# EAGLE library part ATMEGA48 (library avr_modified)
MICROCONTROLLER 4 Kbytes FLASH 512 Bytes SRAM 256 Bytes EEPROM USART 8-channel 10 bit ADC
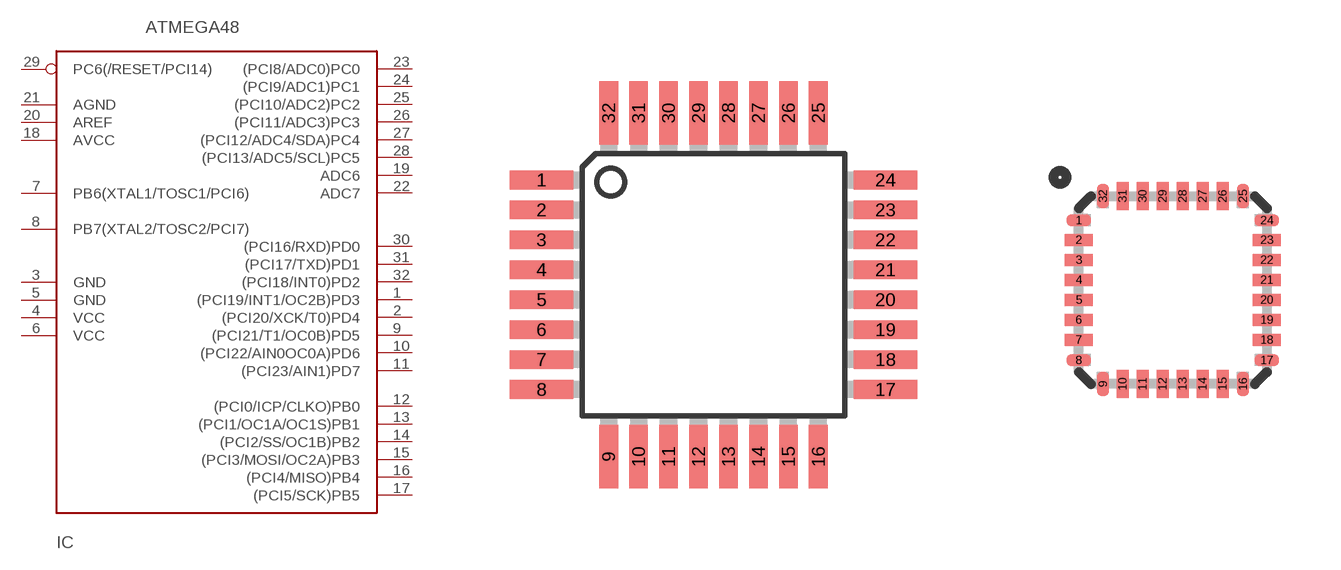
[diagram p53: symbol with the pads of TQFP32-08_LARGE_PADS; footprints TQFP32-08_LARGE_PADS, MLF32]

Designator prefix IC

## ATMEGA48-20A, ATMEGA48V-10A  [TQFP32-08_LARGE_PADS]
1  (PCI19/INT1/OC2B)PD3
2  (PCI20/XCK/T0)PD4
3  GND  pwr
4  VCC  pwr
5  GND  pwr
6  VCC  pwr
7  PB6(XTAL1/TOSC1/PCI6)
8  PB7(XTAL2/TOSC2/PCI7)
9  (PCI21/T1/OC0B)PD5
10  (PCI22/AIN0OC0A)PD6
11  (PCI23/AIN1)PD7
12  (PCI0/ICP/CLKO)PB0
13  (PCI1/OC1A/OC1S)PB1
14  (PCI2/SS/OC1B)PB2
15  (PCI3/MOSI/OC2A)PB3
16  (PCI4/MISO)PB4
17  (PCI5/SCK)PB5
18  AVCC
19  ADC6
20  AREF
21  AGND
22  ADC7
23  (PCI8/ADC0)PC0
24  (PCI9/ADC1)PC1
25  (PCI10/ADC2)PC2
26  (PCI11/ADC3)PC3
27  (PCI12/ADC4/SDA)PC4
28  (PCI13/ADC5/SCL)PC5
29  PC6(/RESET/PCI14)
30  (PCI16/RXD)PD0
31  (PCI17/TXD)PD1
32  (PCI18/INT0)PD2

## ATMEGA48-20M, ATMEGA48V-10M  [MLF32]
Pads as for TQFP32-08_LARGE_PADS

## Footprint TQFP32-08_LARGE_PADS (pad centres in mm)
Thin Plasic Quad Flat Package Grid 0.8 mm
smd 1.7 x 0.5: 1 -4.593,2.8; 2 -4.593,2; 3 -4.593,1.2; 4 -4.593,0.4; 5 -4.593,-0.4; 6 -4.593,-1.2; 7 -4.593,-2; 8 -4.593,-2.8; 17 4.593,-2.8; 18 4.593,-2; 19 4.593,-1.2; 20 4.593,-0.4; 21 4.593,0.4; 22 4.593,1.2; 23 4.593,2; 24 4.593,2.8
smd 0.5 x 1.7: 9 -2.8,-4.593; 10 -2,-4.593; 11 -1.2,-4.593; 12 -0.4,-4.593; 13 0.4,-4.593; 14 1.2,-4.593; 15 2,-4.593; 16 2.8,-4.593; 25 2.8,4.593; 26 2,4.593; 27 1.2,4.593; 28 0.4,4.593; 29 -0.4,4.593; 30 -1.2,4.593; 31 -2,4.593; 32 -2.8,4.593

## Footprint MLF32 (pad centres in mm)
32M1-A Micro Lead Frame package (MLF)
smd 0.61 x 0.305: 1 -2.35,1.75; 8 -2.35,-1.75; 17 2.35,-1.75; 24 2.35,1.75
smd 0.7 x 0.3: 2 -2.35,1.25; 3 -2.35,0.75; 4 -2.35,0.25; 5 -2.35,-0.25; 6 -2.35,-0.75; 7 -2.35,-1.25; 18 2.35,-1.25; 19 2.35,-0.75; 20 2.35,-0.25; 21 2.35,0.25; 22 2.35,0.75; 23 2.35,1.25
smd 0.305 x 0.61: 9 -1.75,-2.35; 16 1.75,-2.35; 25 1.75,2.35; 32 -1.75,2.35
smd 0.3 x 0.7: 10 -1.25,-2.35; 11 -0.75,-2.35; 12 -0.25,-2.35; 13 0.25,-2.35; 14 0.75,-2.35; 15 1.25,-2.35; 26 1.25,2.35; 27 0.75,2.35; 28 0.25,2.35; 29 -0.25,2.35; 30 -0.75,2.35; 31 -1.25,2.35